# EAGLE library part FT231XQ-R (library FT231XQ-R)
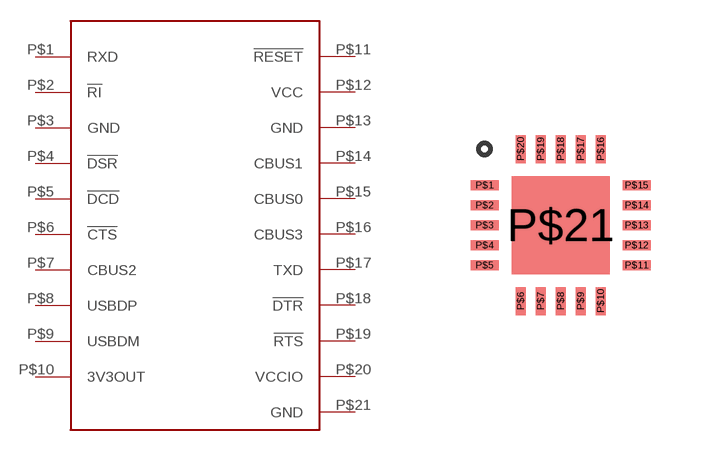
[diagram p0: symbol with the pads of FT231XQ-R; footprint FT231XQ-R]

Designator prefix -

## FT231XQ-R  [FT231XQ-R]
P$1  RXD
P$2  !RI
P$3  GND
P$4  !DSR
P$5  !DCD
P$6  !CTS
P$7  CBUS2
P$8  USBDP
P$9  USBDM
P$10  3V3OUT
P$11  !RESET
P$12  VCC
P$13  GND
P$14  CBUS1
P$15  CBUS0
P$16  CBUS3
P$17  TXD
P$18  !DTR
P$19  !RTS
P$20  VCCIO
P$21  GND

## Footprint FT231XQ-R (pad centres in mm)
smd 0.7 x 0.25: P$1 -1.9,1; P$2 -1.9,0.5; P$3 -1.9,0; P$4 -1.9,-0.5; P$5 -1.9,-1; P$11 1.9,-1; P$12 1.9,-0.5; P$13 1.9,0; P$14 1.9,0.5; P$15 1.9,1
smd 0.25 x 0.7: P$6 -1,-1.9; P$7 -0.5,-1.9; P$8 0,-1.9; P$9 0.5,-1.9; P$10 1,-1.9; P$16 1,1.9; P$17 0.5,1.9; P$18 0,1.9; P$19 -0.5,1.9; P$20 -1,1.9
smd 2.45 x 2.45: P$21 0,0